# EAGLE library part CONTROLLER_STACK (library eq_Control_Board)
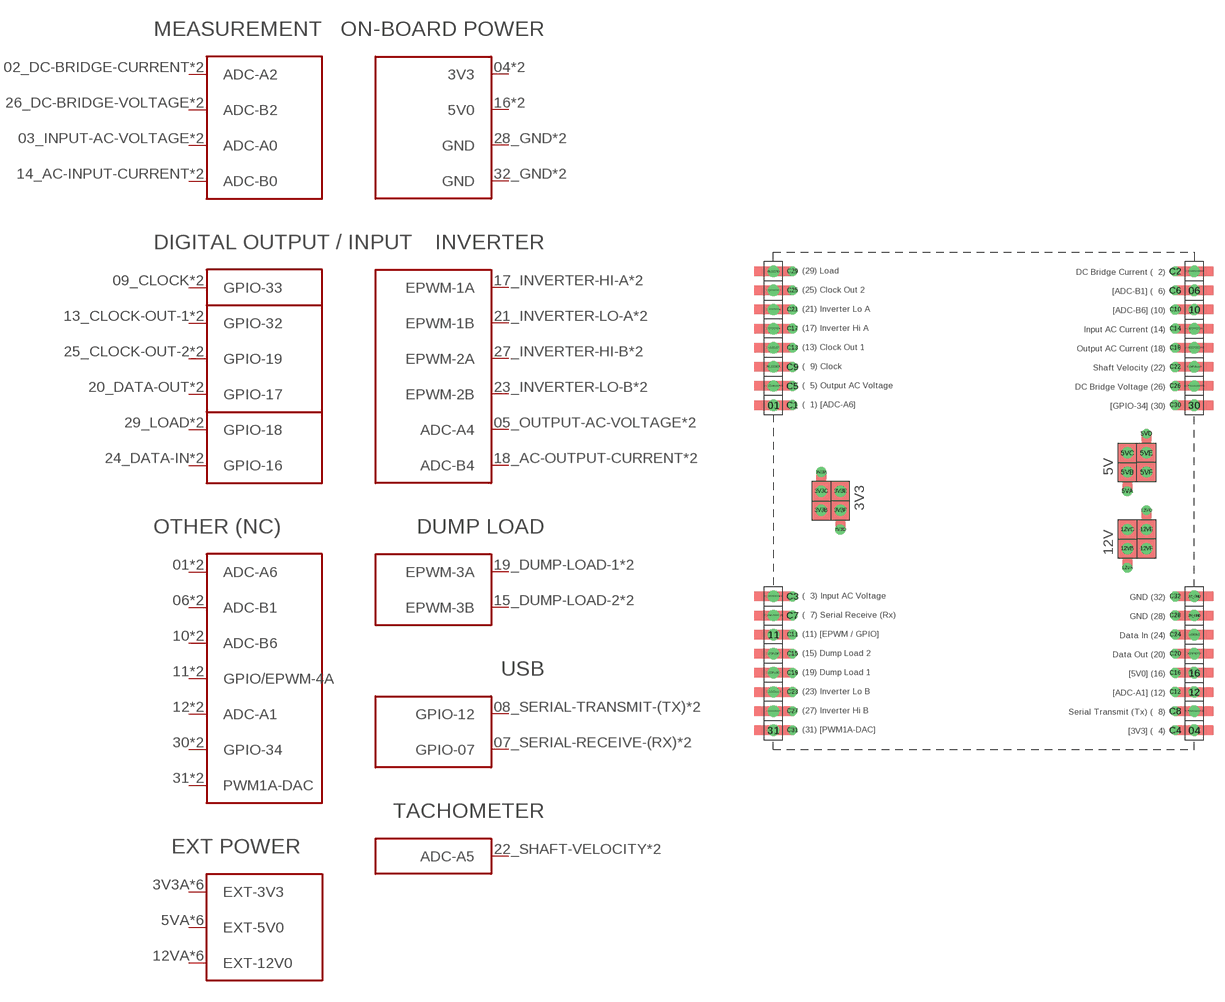
[diagram p5: symbol with the pads of CONTROLLER_STACK; footprint CONTROLLER_STACK]

Designator prefix -

## CONTROLLER_STACK  [CONTROLLER_STACK]
01  ADC-A6
02_DC-BRIDGE-CURRENT  ADC-A2
03_INPUT-AC-VOLTAGE  ADC-A0
3V3A  EXT-3V3
3V3B  EXT-3V3
3V3C  EXT-3V3
3V3D  EXT-3V3
3V3E  EXT-3V3
3V3F  EXT-3V3
04  3V3
05_OUTPUT-AC-VOLTAGE  ADC-A4
5VA  EXT-5V0
5VB  EXT-5V0
5VC  EXT-5V0
5VD  EXT-5V0
5VE  EXT-5V0
5VF  EXT-5V0
06  ADC-B1
07_SERIAL-RECEIVE-(RX)  GPIO-07
08_SERIAL-TRANSMIT-(TX)  GPIO-12
09_CLOCK  GPIO-33
10  ADC-B6
11  GPIO/EPWM-4A
12  ADC-A1
12VA  EXT-12V0
12VB  EXT-12V0
12VC  EXT-12V0
12VD  EXT-12V0
12VE  EXT-12V0
12VF  EXT-12V0
13_CLOCK-OUT-1  GPIO-32
14_AC-INPUT-CURRENT  ADC-B0
15_DUMP-LOAD-2  EPWM-3B
16  5V0
17_INVERTER-HI-A  EPWM-1A
18_AC-OUTPUT-CURRENT  ADC-B4
19_DUMP-LOAD-1  EPWM-3A
20_DATA-OUT  GPIO-17
21_INVERTER-LO-A  EPWM-1B
22_SHAFT-VELOCITY  ADC-A5
23_INVERTER-LO-B  EPWM-2B
24_DATA-IN  GPIO-16
25_CLOCK-OUT-2  GPIO-19
26_DC-BRIDGE-VOLTAGE  ADC-B2
27_INVERTER-HI-B  EPWM-2A
28_GND  GND
29_LOAD  GPIO-18
30  GPIO-34
31  PWM1A-DAC
32_GND  GND
C1  ADC-A6
C2  ADC-A2
C3  ADC-A0
C4  3V3
C5  ADC-A4
C6  ADC-B1
C7  GPIO-07
C8  GPIO-12
C9  GPIO-33
C10  ADC-B6
C11  GPIO/EPWM-4A
C12  ADC-A1
C13  GPIO-32
C14  ADC-B0
C15  EPWM-3B
C16  5V0
C17  EPWM-1A
C18  ADC-B4
C19  EPWM-3A
C20  GPIO-17
C21  EPWM-1B
C22  ADC-A5
C23  EPWM-2B
C24  GPIO-16
C25  GPIO-19
C26  ADC-B2
C27  EPWM-2A
C28  GND
C29  GPIO-18
C30  GPIO-34
C31  PWM1A-DAC
C32  GND

## Footprint CONTROLLER_STACK (pad centres in mm)
drill 1: 01 -27.94,12.7; 02_DC-BRIDGE-CURRENT 27.94,30.48; 03_INPUT-AC-VOLTAGE -27.94,-12.7; 3V3B -21.59,-1.27; 3V3C -21.59,1.27; 3V3E -19.05,1.27; 3V3F -19.05,-1.27; 04 27.94,-30.48; 05_OUTPUT-AC-VOLTAGE -27.94,15.24; 5VB 19.05,3.81; 5VC 19.05,6.35; 5VE 21.59,6.35; 5VF 21.59,3.81; 06 27.94,27.94; 07_SERIAL-RECEIVE-(RX) -27.94,-15.24; 08_SERIAL-TRANSMIT-(TX) 27.94,-27.94; 09_CLOCK -27.94,17.78; 10 27.94,25.4; 11 -27.94,-17.78; 12 27.94,-25.4; 12VB 19.05,-6.35; 12VC 19.05,-3.81; 12VE 21.59,-3.81; 12VF 21.59,-6.35; 13_CLOCK-OUT-1 -27.94,20.32; 14_AC-INPUT-CURRENT 27.94,22.86; 15_DUMP-LOAD-2 -27.94,-20.32; 16 27.94,-22.86; 17_INVERTER-HI-A -27.94,22.86; 18_AC-OUTPUT-CURRENT 27.94,20.32; 19_DUMP-LOAD-1 -27.94,-22.86; 20_DATA-OUT 27.94,-20.32; 21_INVERTER-LO-A -27.94,25.4; 22_SHAFT-VELOCITY 27.94,17.78; 23_INVERTER-LO-B -27.94,-25.4; 24_DATA-IN 27.94,-17.78; 25_CLOCK-OUT-2 -27.94,27.94; 26_DC-BRIDGE-VOLTAGE 27.94,15.24; 27_INVERTER-HI-B -27.94,-27.94; 28_GND 27.94,-15.24; 29_LOAD -27.94,30.48; 30 27.94,12.7; 31 -27.94,-30.48; 32_GND 27.94,-12.7
drill 0.8: 3V3A -21.59,3.81; 3V3D -19.05,-3.81; 5VA 19.05,1.27; 5VD 21.59,8.89; 12VA 19.05,-8.89; 12VD 21.59,-1.27; C1 -25.4,12.7; C2 25.4,30.48; C3 -25.4,-12.7; C4 25.4,-30.48; C5 -25.4,15.24; C6 25.4,27.94; C7 -25.4,-15.24; C8 25.4,-27.94; C9 -25.4,17.78; C10 25.4,25.4; C11 -25.4,-17.78; C12 25.4,-25.4; C13 -25.4,20.32; C14 25.4,22.86; C15 -25.4,-20.32; C16 25.4,-22.86; C17 -25.4,22.86; C18 25.4,20.32; C19 -25.4,-22.86; C20 25.4,-20.32; C21 -25.4,25.4; C22 25.4,17.78; C23 -25.4,-25.4; C24 25.4,-17.78; C25 -25.4,27.94; C26 25.4,15.24; C27 -25.4,-27.94; C28 25.4,-15.24; C29 -25.4,30.48; C30 25.4,12.7; C31 -25.4,-30.48; C32 25.4,-12.7